# Altium schematic symbol library PTS645SM43SMTR92LFS.SchLib: 1 symbol
Pins are listed as number, name and electrical type; pins without a type are passive.

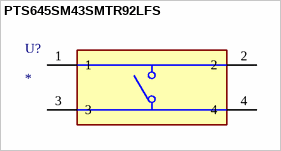
[diagram p0: symbol PTS645SM43SMTR92LFS]

## PTS645SM43SMTR92LFS
designator U?
Switch Tactile N.O. SPST Round Button Gull Wing 0.05A 12VDC 100000Cycles 1.57N SMD T/R; MP: PTS645SM43SMTR 92 LFS; MF: C&K Components; Check_prices: https://www.snapeda.com/parts/PTS645SM43SMTR%2092%20LFS/C%2526K+Components/view-part/?ref=eda; Value: *; Availability: In Stock; Price: None; Package: None; SnapEDA_Link: https://www.snapeda.com/parts/PTS645SM43SMTR%2092%20LFS/C%2526K+Components/view-part/?ref=snap; Purchase-URL: https://pricing.snapeda.com/search/part/PTS645SM43SMTR 92 LFS/?ref=eda
footprint 18259106
pins: 1, 2, 3, 4